# Altium footprint library KEYSTONE 612.PCBLIB: 1 footprints
Each footprint in its own frame and in the unit in brackets; x right, y up, seen from the top. Pads: shape width x height; smd on the part's side, far side on the other; paste and mask are expansions set on the pad; w line width, h text height; cw(c..) or ccw(c..) is an arc to the next point about the centre after c.
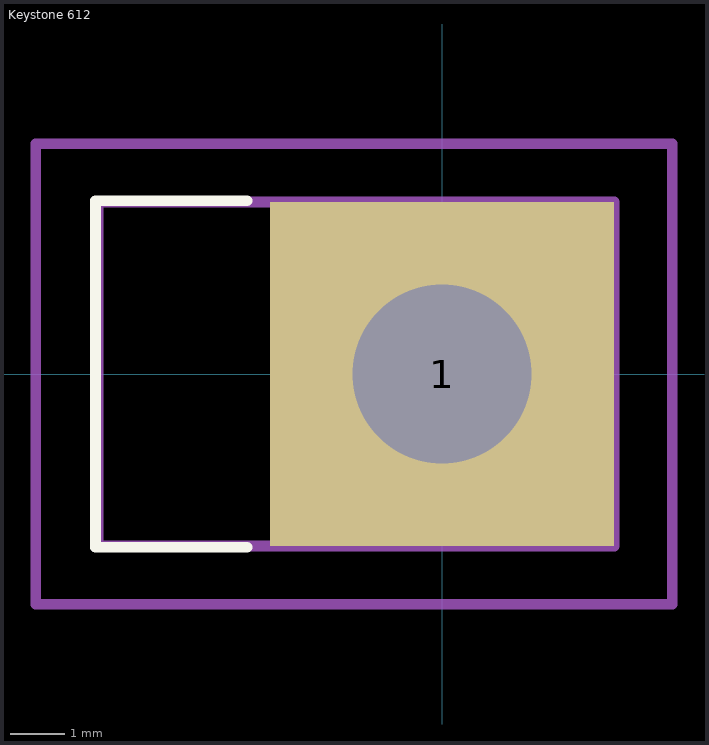
[diagram p0: the footprint, top view; thin cyan lines are the x and y axes]

## Keystone 612 [mm]
height 8.71
pads (1):
  rect 6.35x6.35 hole 3.3: 1(0,0)
Top Overlay:
  lines w0.2: -3.6,-3.2 -6.4,-3.2 -6.4,3.2 -3.6,3.2
Mechanical 1:
  lines w0.2: -6.35,-3.175 -6.35,3.175 3.18,3.175 3.18,-3.175 -6.35,-3.175
Mechanical 15:
  lines w0.2: -1,0 1,0 ; 0,-1 0,1 ; -7.5,-4.25 -7.5,4.25 4.25,4.25 4.25,-4.25 -7.5,-4.25
3D body "Keystone 612.STEP": height 8.71, standoff 0, extent -6.35,-3.175 3.18,3.175